# Altium integrated library MCU_Library.IntLib: 13 symbols
Pins are listed as number, name and electrical type; pins without a type are passive.

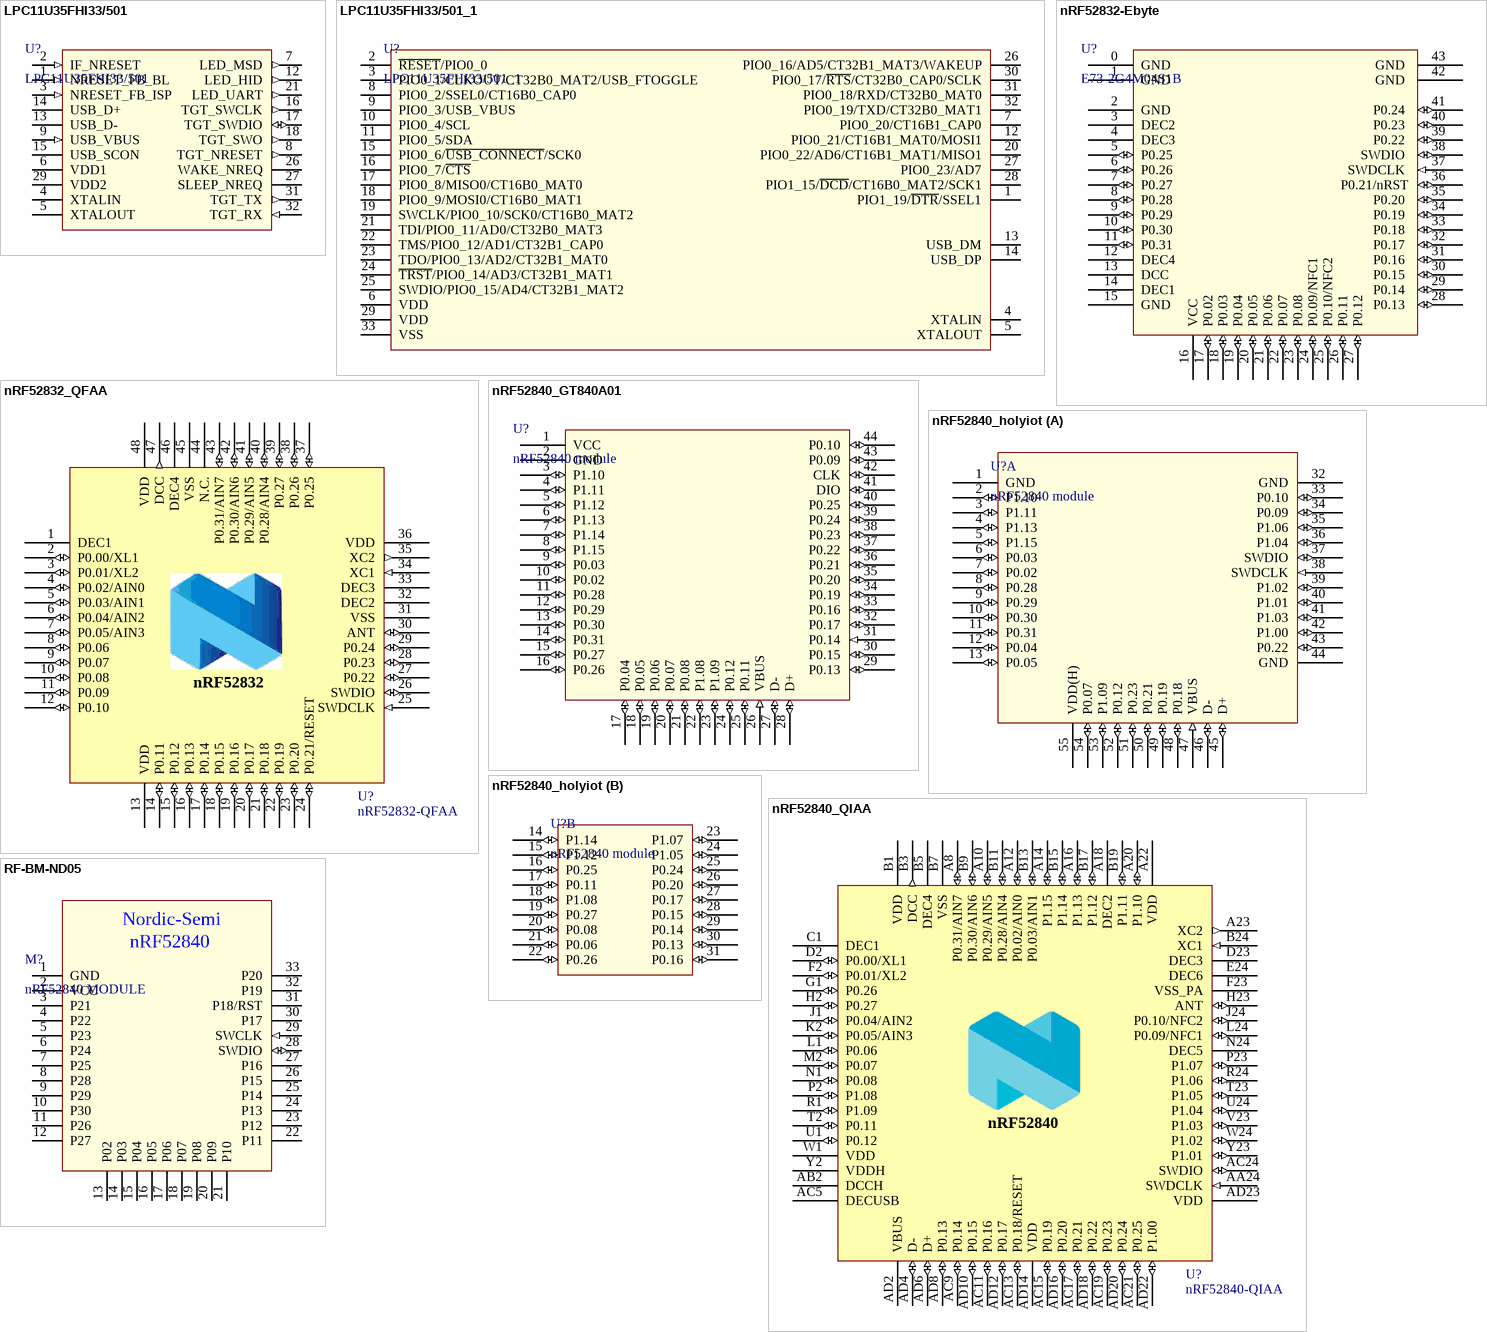
[diagram p0: symbols LPC11U35FHI33/501 to RF-BM-ND05]

## LPC11U35FHI33/501
designator U?
sch component for DAPlink Probes; Reference: https://github.com/ARMmbed/mbed-HDK/tree/master/Production%20Design%20Projects/ARM-mbed/DAPLink/DIPDAP/v1.0.0
footprint HVQFN33 (LPC11U35FHI33/501)
pins: 1 NRESET_FB_BL (in), 2 IF_NRESET (in), 3 NRESET_FB_ISP (in), 4 XTALIN, 5 XTALOUT, 6 VDD1 (power), 7 LED_MSD (out), 8 TGT_NRESET (out), 9 USB_VBUS (in), 10 NC2 hidden, 11 NC3 hidden, 12 LED_HID (out), 13 USB_D-, 14 USB_D+, 15 USB_SCON, 16 TGT_SWCLK (out), 17 TGT_SWDIO (io), 18 TGT_SWO (out), 19 NC4 hidden, 20 NC5 hidden, 21 LED_UART (out), 22 NC6 hidden, 23 NC7 hidden, 24 NC8 hidden, 25 NC9 hidden, 26 WAKE_NREQ, 27 SLEEP_NREQ, 28 NC10 hidden, 29 VDD2 (power), 30 NC11 hidden, 31 TGT_TX (out), 32 TGT_RX (in), 33 VSS (power) hidden to GND

## LPC11U35FHI33/501_1
designator U?
sch component for DAPlink Interface; Reference: https://github.com/ARMmbed/mbed-HDK-Eagle-Projects/tree/master/DAPLink/Interface%20Schematics/LPC11U35/v1.1.0
footprint HVQFN33 (LPC11U35FHI33/501)
pins: 1 PIO1_19/~{DTR}/SSEL1, 2 ~{RESET}/PIO0_0, 3 PIO0_1/CLKOUT/CT32B0_MAT2/USB_FTOGGLE, 4 XTALIN, 5 XTALOUT, 6 VDD, 7 PIO0_20/CT16B1_CAP0, 8 PIO0_2/SSEL0/CT16B0_CAP0, 9 PIO0_3/USB_VBUS, 10 PIO0_4/SCL, 11 PIO0_5/SDA, 12 PIO0_21/CT16B1_MAT0/MOSI1, 13 USB_DM, 14 USB_DP, 15 PIO0_6/~{USB_CONNECT}/SCK0, 16 PIO0_7/~{CTS}, 17 PIO0_8/MISO0/CT16B0_MAT0, 18 PIO0_9/MOSI0/CT16B0_MAT1, 19 SWCLK/PIO0_10/SCK0/CT16B0_MAT2, 20 PIO0_22/AD6/CT16B1_MAT1/MISO1, 21 TDI/PIO0_11/AD0/CT32B0_MAT3, 22 TMS/PIO0_12/AD1/CT32B1_CAP0, 23 TDO/PIO0_13/AD2/CT32B1_MAT0, 24 ~{TRST}/PIO0_14/AD3/CT32B1_MAT1, 25 SWDIO/PIO0_15/AD4/CT32B1_MAT2, 26 PIO0_16/AD5/CT32B1_MAT3/WAKEUP, 27 PIO0_23/AD7, 28 PIO1_15/~{DCD}/CT16B0_MAT2/SCK1, 29 VDD, 30 PIO0_17/~{RTS}/CT32B0_CAP0/SCLK, 31 PIO0_18/RXD/CT32B0_MAT0, 32 PIO0_19/TXD/CT32B0_MAT1, 33 VSS

## nRF52832-Ebyte
designator U?, comment E73-2G4M04S1B
Ebyte E73-2G4M04S-52832; Part Number: E73-2G4M04S1B; Type: nRF52832 module; Manufacturer: EBYTE
footprint nRF52832-Ebyte
pins: 0 GND  (power), 1 GND  (power), 2 GND  (power), 3 DEC2, 4 DEC3, 5 P0.25  (io), 6 P0.26  (io), 7 P0.27  (io), 8 P0.28  (io), 9 P0.29  (io), 10 P0.30  (io), 11 P0.31  (io), 12 DEC4, 13 DCC , 14 DEC1, 15 GND  (power), 16 VCC  (power), 17 P0.02  (io), 18 P0.03  (io), 19 P0.04  (io), 20 P0.05  (io), 21 P0.06  (io), 22 P0.07  (io), 23 P0.08  (io), 24 P0.09/NFC1 (io), 25 P0.10/NFC2 (io), 26 P0.11  (io), 27 P0.12  (io), 28 P0.13  (io), 29 P0.14  (io), 30 P0.15  (io), 31 P0.16  (io), 32 P0.17  (io), 33 P0.18  (io), 34 P0.19  (io), 35 P0.20  (io), 36 P0.21/nRST (io), 37 SWDCLK  (in), 38 SWDIO  (io), 39 P0.22  (io), 40 P0.23  (io), 41 P0.24  (io), 42 GND  (power), 43 GND  (power)

## nRF52832_QFAA
designator U?, comment nRF52832-QFAA
Multi-protocol Bluetooth Low Energy and 2.4GHz proprietary system-on-chip; Manufacturer: Nordic Semiconductor; Artikkelnr Noca: N.A.; Part Number: nRF52832-QFAA; Manufacturer Part Number: nRF52832-QFAA; Datasheet: *; LatestRevisionDate: 2014-11-26; Pin Count: 48; Publisher: Nordic Semiconductor; Published: 2014-11-26; Value: nRF52832-QFAA; Note: *; Supplier: Nordic Semiconductor; Supplier part number: *; 2nd source Supplier: *; 2nd source part number: *; Footprint Doc: QFN-48; Artikkelnr Simpro: N.A.
footprint QFN40P600X600X90-48N
pins: 1 DEC1 (power), 2 P0.00/XL1 (io), 3 P0.01/XL2 (io), 4 P0.02/AIN0 (io), 5 P0.03/AIN1 (io), 6 P0.04/AIN2 (io), 7 P0.05/AIN3 (io), 8 P0.06 (io), 9 P0.07 (io), 10 P0.08 (io), 11 P0.09 (io), 12 P0.10 (io), 13 VDD (power), 14 P0.11 (io), 15 P0.12 (io), 16 P0.13 (io), 17 P0.14 (io), 18 P0.15 (io), 19 P0.16 (io), 20 P0.17 (io), 21 P0.18 (io), 22 P0.19 (io), 23 P0.20 (io), 24 P0.21/RESET (io), 25 SWDCLK (in), 26 SWDIO (io), 27 P0.22 (io), 28 P0.23 (io), 29 P0.24 (io), 30 ANT (io), 31 VSS (power), 32 DEC2 (power), 33 DEC3 (power), 34 XC1 (in), 35 XC2 (out), 36 VDD (power), 37 P0.25 (io), 38 P0.26 (io), 39 P0.27 (io), 40 P0.28/AIN4 (io), 41 P0.29/AIN5 (io), 42 P0.30/AIN6 (io), 43 P0.31/AIN7 (io), 44 N.C. (power), 45 VSS (power), 46 DEC4 (power), 47 DCC (out), 48 VDD (power), 49 GND (power) hidden to GND
text: nRF52832

## nRF52840_GT840A01
designator U?, comment nRF52840 module
nRF52840 module GT840A_01
footprint nRF52840_GT840A01
pins: 1 VCC (power), 2 GND (power), 3 P1.10 (io), 4 P1.11 (io), 5 P1.12 (io), 6 P1.13 (io), 7 P1.14 (io), 8 P1.15 (io), 9 P0.03 (io), 10 P0.02 (io), 11 P0.28 (io), 12 P0.29 (io), 13 P0.30 (io), 14 P0.31 (io), 15 P0.27 (io), 16 P0.26 (io), 17 P0.04 (io), 18 P0.05 (io), 19 P0.06 (io), 20 P0.07 (io), 21 P0.08 (io), 22 P1.08 (io), 23 P1.09 (io), 24 P0.12 (io), 25 P0.11 (io), 26 VBUS (in), 27 D- (io), 28 D+ (io), 29 P0.13 (io), 30 P0.15 (io), 31 P0.14 (in), 32 P0.17 (io), 33 P0.16 (io), 34 P0.19 (io), 35 P0.20 (io), 36 P0.21 (io), 37 P0.22 (io), 38 P0.23 (io), 39 P0.24 (io), 40 P0.25 (io), 41 DIO (io), 42 CLK (io), 43 P0.09 (io), 44 P0.10 (io)

## nRF52840_holyiot
designator U?, comment nRF52840 module
nRF52840 holyiot module
footprint nRF52840_holyiot
part A pins: 1 GND (power), 2 P1.10 (io), 3 P1.11 (io), 4 P1.13 (io), 5 P1.15 (io), 6 P0.03 (io), 7 P0.02 (io), 8 P0.28 (io), 9 P0.29 (io), 10 P0.30 (io), 11 P0.31 (io), 12 P0.04 (io), 13 P0.05 (io), 32 GND (power), 33 P0.10 (io), 34 P0.09 (io), 35 P1.06 (io), 36 P1.04 (io), 37 SWDIO (io), 38 SWDCLK (in), 39 P1.02 (io), 40 P1.01 (io), 41 P1.03 (io), 42 P1.00 (io), 43 P0.22 (io), 44 GND (power), 45 D+ (io), 46 D- (io), 47 VBUS (in), 48 P0.18 (io), 49 P0.19 (io), 50 P0.21 (io), 51 P0.23 (io), 52 P0.12 (io), 53 P1.09 (io), 54 P0.07 (io), 55 VDD(H) (power)
part B pins: 14 P1.14 (io), 15 P1.12 (io), 16 P0.25 (io), 17 P0.11 (io), 18 P1.08 (io), 19 P0.27 (io), 20 P0.08 (io), 21 P0.06 (io), 22 P0.26 (io), 23 P1.07 (io), 24 P1.05 (io), 25 P0.24 (io), 26 P0.20 (io), 27 P0.17 (io), 28 P0.15 (io), 29 P0.14 (io), 30 P0.13 (io), 31 P0.16 (io)

## nRF52840_QIAA
designator U?, comment nRF52840-QIAA
Multi-protocol Bluetooth Low Energy, IEEE 802.15.4, ANT and 2.4GHz proprietary system-on-chip; Part Number: nRF52840-QIAAC0; Manufacturer: Nordic Semiconductor; Artikkelnr Noca: N.A.; Manufacturer Part Number: nRF52840-QIAAC0; LatestRevisionDate: 2017-12-06; Pin Count: 73; Publisher: Nordic Semiconductor; Published: 2017-08-21; Value: nRF52840-QIAA; Note: *; Supplier: Nordic Semiconductor; Supplier part number: nRF52840-QIAAC0; 2nd source Supplier: *; 2nd source part number: *; Footprint Doc: AQFN-73; Artikkelnr Simpro: N.A.; Part number IPS: N.A.; ComponentLink1URL: *; ComponentLink1Description: Datasheet; ComponentLink2URL: *; ComponentLink2Description: Supplier link; HelpURL: *
footprint AQFN50P700X700X85_HS-74N
pins: 74 GND (power) hidden to GND, A8 P0.31/AIN7 (io), A10 P0.29/AIN5 (io), A12 P0.02/AIN0 (io), A14 P1.15 (io), A16 P1.13 (io), A18 DEC2 (power), A20 P1.10 (io), A22 VDD (power), A23 XC2 (out), AA24 SWDCLK (in), AB2 DCCH (power), AC5 DECUSB (power), AC9 P0.14 (io), AC11 P0.16 (io), AC13 P0.18/RESET (io), AC15 P0.19 (io), AC17 P0.21 (io), AC19 P0.23 (io), AC21 P0.25 (io), AC24 SWDIO (io), AD2 VBUS (power), AD4 D- (io), AD6 D+ (io), AD8 P0.13 (io), AD10 P0.15 (io), AD12 P0.17 (io), AD14 VDD (power), AD16 P0.20 (io), AD18 P0.22 (io), AD20 P0.24 (io), AD22 P1.00 (io), AD23 VDD (power), B1 VDD (power), B3 DCC (out), B5 DEC4 (power), B7 VSS (power), B9 P0.30/AIN6 (io), B11 P0.28/AIN4 (io), B13 P0.03/AIN1 (io), B15 P1.14 (io), B17 P1.12 (io), B19 P1.11 (io), B24 XC1 (in), C1 DEC1 (power), D2 P0.00/XL1 (io), D23 DEC3 (power), E24 DEC6 (power), F2 P0.01/XL2 (io), F23 VSS_PA (power), G1 P0.26 (io), H2 P0.27 (io), H23 ANT (io), J1 P0.04/AIN2 (io), J24 P0.10/NFC2 (io), K2 P0.05/AIN3 (io), L1 P0.06 (io), L24 P0.09/NFC1 (io), M2 P0.07 (io), N1 P0.08 (io), N24 DEC5 (power), P2 P1.08 (io), P23 P1.07 (io), R1 P1.09 (io), R24 P1.06 (io), T2 P0.11 (io), T23 P1.05 (io), U1 P0.12 (io), U24 P1.04 (io), V23 P1.03 (io), W1 VDD (power), W24 P1.02 (io), Y2 VDDH (power), Y23 P1.01 (io)
text: nRF52840

## RF-BM-ND05
designator M?, comment nRF52840 MODULE
Manufacturer: RF-STAR; Manufacturer Part Number: RF-BM-ND06
footprint RF-BM-ND05 (Bluetooth 5.0 Low Energy Module)
pins: 1 GND (power), 2 VCC (power) "Power supply 1.7 V ~ 5.5 V, Recommend 3.3 V", 3 P21 "P0.21", 4 P22 "P0.22", 5 P23 "P0.23", 6 P24 "P0.24", 7 P25 "P0.25", 8 P28 "P0.28/AIN4", 9 P29 "P0.29/AIN5", 10 P30 "P0.30/AIN6", 11 P26 "P0.26", 12 P27 "P0.27", 13 P02 "P0.02/AIN0", 14 P03 "P0.03/AIN1", 15 P04 "P0.04/AIN2", 16 P05 "P0.05/AIN3", 17 P06 "P0.06", 18 P07 "P0.07", 19 P08 "P0.08", 20 P09 "P0.09/NFC1", 21 P10 "P0.10/NFC2", 22 P11 "P0.11", 23 P12 "P0.12", 24 P13 "P0.13", 25 P14 "P0.14", 26 P15 "P0.15", 27 P16 "P0.16", 28 SWDIO (io) "Serial wire debug I/O for debug and programming", 29 SWCLK (in) "Serial wire debug clock input for debug and  programming", 30 P17 "P0.17", 31 P18/RST "Reset, active low", 32 P19 "P0.19", 33 P20 "P0.20"
text: Nordic-Semi; nRF52840

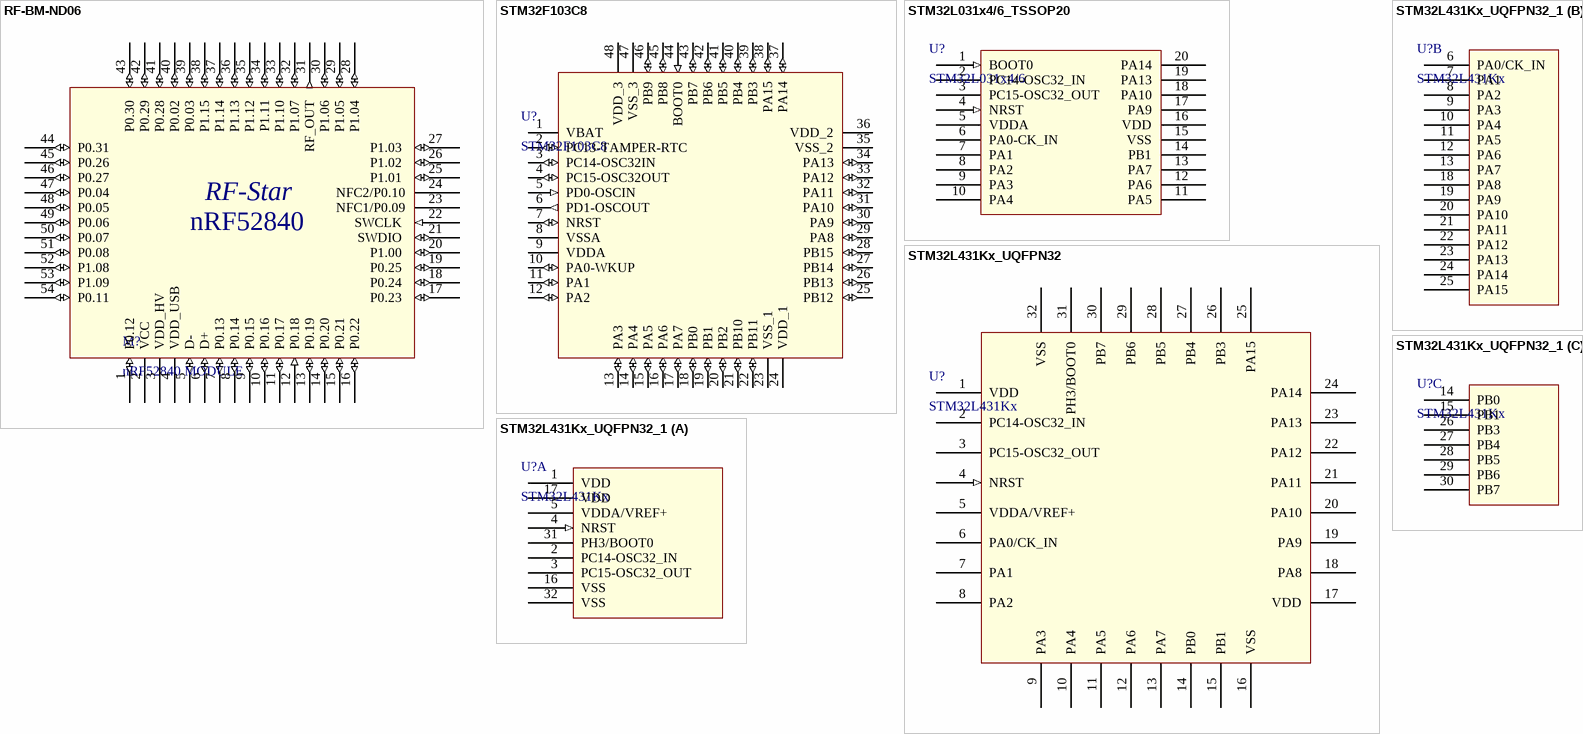
[diagram p1: symbols RF-BM-ND06 to STM32L431Kx_UQFPN32_1]

## RF-BM-ND06
designator M?, comment nRF52840 MODULE
Manufacturer: RF-STAR; Manufacturer Part Number: RF-BM-ND06
footprint RF-BM-ND06 (RF-Star nRF52840 Module)
footprint RF-BM-ND06_1 ((Removed ANT) RF-Star nRF52840 Module)
pins: 0 GND (power) hidden to GND, 1 P0.12  (io) "-", 2 VCC  (power) "1.7V to 3.6V", 3 VDD_HV  (power) "2.5V to 5.5V", 4 VDD_USB  (power) "4.35V– 5.5V", 5 D-  (io) "D-", 6 D+  (io) "D+", 7 P0.13  (io) "LED", 8 P0.14  (io) "LED", 9 P0.15  (io) "LED", 10 P0.16  (io) "LED", 11 P0.17  (io) "LED", 12 P0.18  (in) "System Reset (Active Low)", 13 P0.19  (io) "-", 14 P0.20  (io) "-", 15 P0.21  (io) "-", 16 P0.22  (io) "-", 17 P0.23  (io) "-", 18 P0.24  (io) "BUTTON", 19 P0.25  (io) "BUTTON", 20 P1.00  (io) "-", 21 SWDIO  (io) "Connect to the j - link", 22 SWCLK  (in) "Connect to the j - link", 23 NFC1/P0.09 "SIO_09", 24 NFC2/P0.10 "SIO_10", 25 P1.01  (io) "-", 26 P1.02  (io) "-", 27 P1.03  (io) "FTDI USB_DTR via jumper on J12pin1-2.", 28 P1.04  (io) "-", 29 P1.05  (io) "-", 30 P1.06  (io) "-", 31 RF_OUT  (out) "-", 32 P1.07  (io) "-", 33 P1.10  (io) "-", 34 P1.11  (io) "-", 35 P1.12  (io) "SPI EEPROM. SPI_Eeprom_CS, Input", 36 P1.13  (io) "-", 37 P1.14  (io) "-", 38 P1.15  (io) "-", 39 P0.03  (io) "Temp Sens Analog", 40 P0.02  (io) ""Internal pull-down.", 41 P0.28  (io) "Pull High externally to enter VSP", 42 P0.29  (io) "(Virtual Serial Port) Service"", 43 P0.30  (io) "-", 44 P0.31  (io) "-", 45 P0.26  (io) "-", 46 P0.27  (io) "-", 47 P0.04  (io) "I2C RTC chip. I2C data line", 48 P0.05  (io) "I2C RTC chip. I2C clock line.", 49 P0.06  (io) ""SPI EEPROM.", 50 P0.07  (io) "SPI_Eeprom_MISO,", 51 P0.08  (io) "Input.", 52 P1.08  (io) "SPIOPEN in", 53 P1.09  (io) "smartBASIC selects SPI function; MOSI", 54 P0.11  (io) "and CLK are outputs when in SPI master"
text: RF-Star; nRF52840

## STM32F103C8
designator U?
LQFP48, Cortex M3 MCU
footprint LQFN48 (STM32F103C8)
pins: 1 VBAT (power), 2 PC13-TAMPER-RTC (io), 3 PC14-OSC32IN (io), 4 PC15-OSC32OUT (io), 5 PD0-OSCIN (in), 6 PD1-OSCOUT (out), 7 NRST (io), 8 VSSA (power), 9 VDDA (power), 10 PA0-WKUP (io), 11 PA1 (io), 12 PA2 (io), 13 PA3 (io), 14 PA4 (io), 15 PA5 (io), 16 PA6 (io), 17 PA7 (io), 18 PB0 (io), 19 PB1 (io), 20 PB2 (io), 21 PB10 (io), 22 PB11 (io), 23 VSS_1 (power), 24 VDD_1 (power), 25 PB12 (io), 26 PB13 (io), 27 PB14 (io), 28 PB15 (io), 29 PA8 (io), 30 PA9 (io), 31 PA10 (io), 32 PA11 (io), 33 PA12 (io), 34 PA13 (io), 35 VSS_2 (power), 36 VDD_2 (power), 37 PA14 (io), 38 PA15 (io), 39 PB3 (io), 40 PB4 (io), 41 PB5 (io), 42 PB6 (io), 43 PB7 (io), 44 BOOT0 (in), 45 PB8 (io), 46 PB9 (io), 47 VSS_3 (power), 48 VDD_3 (power)

## STM32L031x4/6_TSSOP20
designator U?, comment STM32L031x4/6
Access line ultra-low-power 32-bit MCU Arm®-based Cortex®-M0+, up to 32KB Flash, 8KB SRAM, 1KB EEPROM, ADC
footprint STM32_TSSOP20
pins: 1 BOOT0 (in), 2 PC14-OSC32_IN, 3 PC15-OSC32_OUT, 4 NRST (in), 5 VDDA (power), 6 PA0-CK_IN, 7 PA1, 8 PA2, 9 PA3, 10 PA4, 11 PA5, 12 PA6, 13 PA7, 14 PB1, 15 VSS (power), 16 VDD (power), 17 PA9, 18 PA10, 19 PA13, 20 PA14

## STM32L431Kx_UQFPN32
designator U?, comment STM32L431Kx
Ultra-low-power Arm® Cortex®-M4 32-bit MCU+FPU, 100DMIPS, up to 256KB Flash, 64KB SRAM, analog, audio
footprint STM32_UFQFPN32_5X5 (QFN, 32-Leads, Body 5.00x5.00mm, Pitch 0.50mm, Thermal Pad 3.50x3.50mm, IPC Medium Density)
pins: 1 VDD (power), 2 PC14-OSC32_IN, 3 PC15-OSC32_OUT, 4 NRST (in), 5 VDDA/VREF+ (power), 6 PA0/CK_IN, 7 PA1, 8 PA2, 9 PA3, 10 PA4, 11 PA5, 12 PA6, 13 PA7, 14 PB0, 15 PB1, 16 VSS (power), 17 VDD (power), 18 PA8, 19 PA9, 20 PA10, 21 PA11, 22 PA12, 23 PA13, 24 PA14, 25 PA15, 26 PB3, 27 PB4, 28 PB5, 29 PB6, 30 PB7, 31 PH3/BOOT0, 32 VSS (power)

## STM32L431Kx_UQFPN32_1
designator U?, comment STM32L431Kx
Ultra-low-power Arm® Cortex®-M4 32-bit MCU+FPU, 100DMIPS, up to 256KB Flash, 64KB SRAM, analog, audio
footprint STM32_UFQFPN32_5X5 (QFN, 32-Leads, Body 5.00x5.00mm, Pitch 0.50mm, Thermal Pad 3.50x3.50mm, IPC Medium Density)
part A pins: 1 VDD (power), 2 PC14-OSC32_IN, 3 PC15-OSC32_OUT, 4 NRST (in), 5 VDDA/VREF+ (power), 16 VSS (power), 17 VDD (power), 31 PH3/BOOT0, 32 VSS (power)
part B pins: 6 PA0/CK_IN, 7 PA1, 8 PA2, 9 PA3, 10 PA4, 11 PA5, 12 PA6, 13 PA7, 18 PA8, 19 PA9, 20 PA10, 21 PA11, 22 PA12, 23 PA13, 24 PA14, 25 PA15
part C pins: 14 PB0, 15 PB1, 26 PB3, 27 PB4, 28 PB5, 29 PB6, 30 PB7